# Altium footprint library 1-1123723-2.PcbLib: 2 footprints
Each footprint in its own frame and in the unit in brackets; x right, y up, seen from the top. Pads: shape width x height; smd on the part's side, far side on the other; paste and mask are expansions set on the pad; w line width, h text height; cw(c..) or ccw(c..) is an arc to the next point about the centre after c.
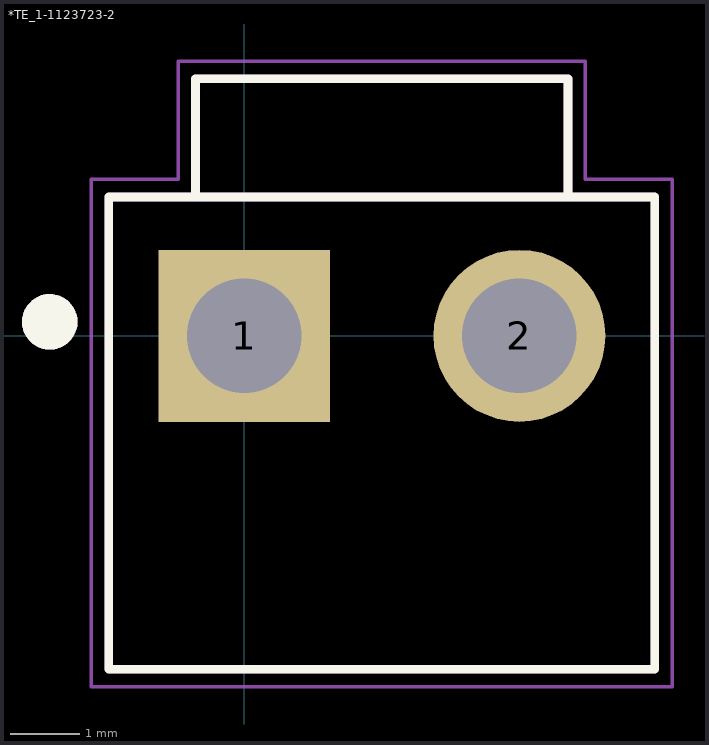
[diagram p0: the footprints below, top view; thin cyan lines are the x and y axes]

## *TE_1-1123723-2 [mm]
pads (2):
  rect 2.475x2.475 hole 1.65: 1(0,0)
  round 2.475 hole 1.65: 2(3.96,0)
Top Overlay:
  circle w0.4: c-2.8,0.2 r0.2
  lines w0.127: -0.7,2 -0.7,3.7 4.66,3.7 4.66,2 ; -0.7,2 4.66,2 ; -0.7,2 -1.95,2 -1.95,-4.8 5.91,-4.8 5.91,2 4.66,2
Mechanical 4:
  circle w0.4: c-2.8,0.2 r0.2
  circle w0.4: c-2.8,0.2 r0.2
  lines w0.127: -1.95,-4.8 -1.95,2 ; -1.95,-4.8 5.91,-4.8 ; -1.95,-4.8 -1.95,2 ; -1.95,-4.8 5.91,-4.8 ; -1.95,2 -0.7,2 ; -1.95,2 -0.7,2 ; -0.7,2 -0.7,3.7 ; -0.7,2 4.66,2 ; -0.7,2 -0.7,3.7 ; -0.7,2 4.66,2 ; -0.7,3.7 4.66,3.7 ; -0.7,3.7 4.66,3.7 ; 4.66,2 4.66,3.7 ; 4.66,2 5.91,2 ; 4.66,2 4.66,3.7 ; 4.66,2 5.91,2 ; 5.91,-4.8 5.91,2 ; 5.91,-4.8 5.91,2
Mechanical 16:
  lines w0.05: -2.2,-5.05 -2.2,2.25 -0.95,2.25 -0.95,3.95 4.91,3.95 4.91,2.25 6.16,2.25 6.16,-5.05 -2.2,-5.05

## PCBComponent_1 [mm]